# Altium footprint library PCB - CONNECTOR - SAMTEC IPL1-108-02-L-D-K.PCBLIB: 1 footprints
Each footprint in its own frame and in the unit in brackets; x right, y up, seen from the top. Pads: shape width x height; smd on the part's side, far side on the other; paste and mask are expansions set on the pad; w line width, h text height; cw(c..) or ccw(c..) is an arc to the next point about the centre after c.
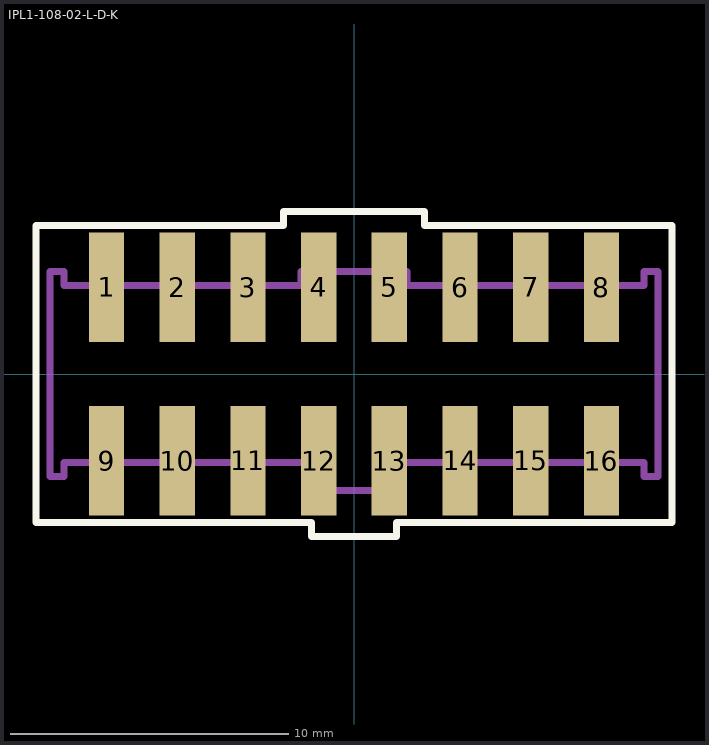
[diagram p0: the footprint, top view; thin cyan lines are the x and y axes]

## IPL1-108-02-L-D-K [mil]
pads (16):
  rect 50x155 smd mask+2: 1(-350,122.5) 2(-250,122.5) 3(-150,122.5) 4(-50,122.5) 5(50,122.5) 6(150,122.5) 7(250,122.5) 8(350,122.5) 9(-350,-122.5) 10(-250,-122.5) 11(-150,-122.5) 12(-50,-122.5) 13(50,-122.5) 14(150,-122.5) 15(250,-122.5) 16(350,-122.5)
Top Overlay:
  lines w10: -450,-210 -450,210 -100,210 -100,230 100,230 100,210 450,210 450,-210 60,-210 60,-230 -60,-230 -60,-210 -450,-210
M5 Assembly Top:
  lines w10: -430,-145 -410,-145 -410,-125 -50,-125 -50,-165 50,-165 50,-125 410,-125 410,-145 430,-145 430,145 410,145 410,125 75,125 75,145 -75,145 -75,125 -410,125 -410,145 -430,145 -430,-145
  text ".Designator" at -51.18,-43.31 h60
3D body "IPL1-108-02-L-D-K.stp": height 320, standoff -25, extent -430,-188.5 430,188.5